# EAGLE library part RF2172 (library Rfmd-U)
RF PPOWER AMP
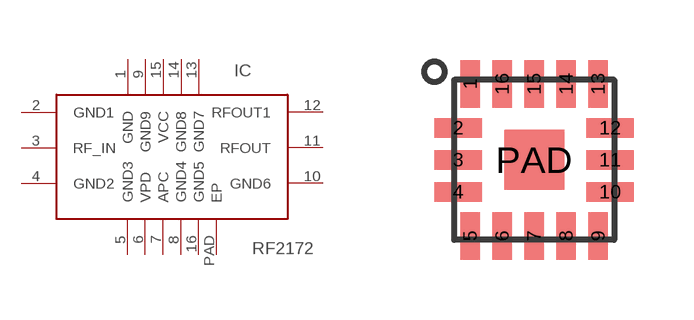
[diagram p0: symbol with the pads of QFN164X4; footprint QFN164X4]

Designator prefix IC

## RF2172  [QFN164X4]
1  GND
2  GND1
3  RF_IN
4  GND2
5  GND3
6  VPD
7  APC
8  GND4
9  GND9
10  GND6
11  RFOUT
12  RFOUT1
13  GND7
14  GND8
15  VCC
16  GND5
PAD  EP

## Footprint QFN164X4 (pad centres in mm)
4x4mm, 0.8 mm pitch
smd 0.49 x 1.19: 1 -1.6,1.9; 5 -1.6,-1.9; 6 -0.8,-1.9; 7 0,-1.9; 8 0.8,-1.9; 9 1.6,-1.9; 13 1.6,1.9; 14 0.8,1.9; 15 0,1.9; 16 -0.8,1.9
smd 1.19 x 0.49: 2 -1.9,0.8; 3 -1.9,0; 4 -1.9,-0.8; 10 1.9,-0.8; 11 1.9,0; 12 1.9,0.8
smd 1.5 x 1.5: PAD 0,0